# EAGLE library part 74CB3T3245 (library 74CB)
8-BIT FET BUS SWITCH 2.5-V/3.3-V LOW-VOLTAGE WITH 5-V-TOLERANT LEVEL SHIFTER Source: http://www.ti.com/lit/ds/symlink/sn74cb3t3245.pdf
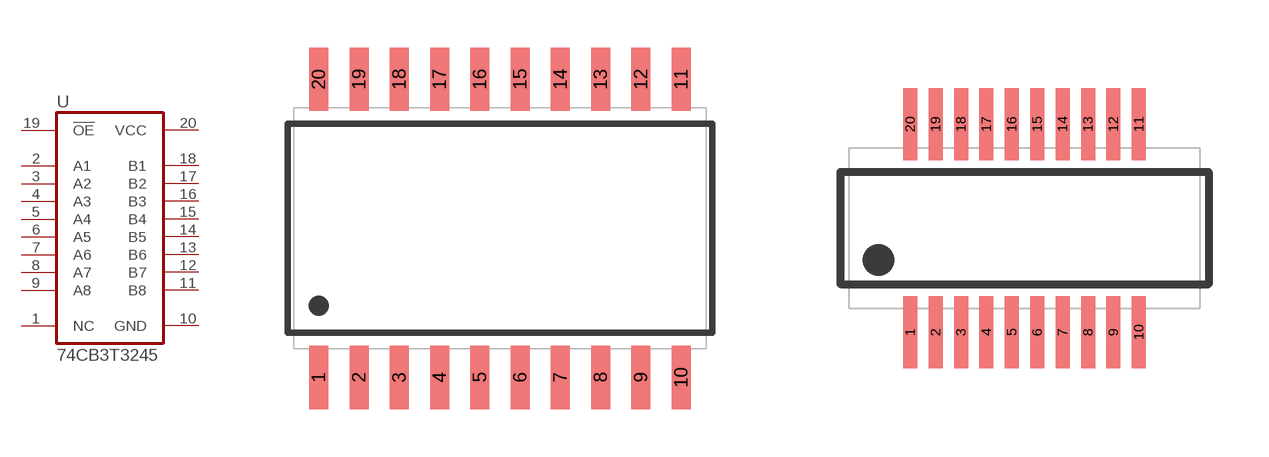
[diagram p0: symbol with the pads of SO20; footprints SO20, SSOP20L]

Designator prefix U

## 74CB3T3245DW  [SO20]
1  NC  nc
2  A1
3  A2
4  A3
5  A4
6  A5
7  A6
8  A7
9  A8
10  GND  pwr
11  B8
12  B7
13  B6
14  B5
15  B4
16  B3
17  B2
18  B1
19  !OE!  in
20  VCC  pwr

## 74CB3T3245DBQ  [SSOP20L]
Pads as for SO20

## 74CB3T3245PW  [TSSOP20]
Pads as for SO20

## 74CB3T3245DGV  [TVSOP20]
Pads as for SO20

## Footprint SO20 (pad centres in mm)
SMALL OUTLINE INTEGRATED CIRCUIT DW ( R-PDSO-G20) / JEDEC MS-013AC pitch 1.27 mm, body 7.6 x 13 mm
smd 0.6 x 2: 1 -5.715,-4.7; 2 -4.445,-4.7; 3 -3.175,-4.7; 4 -1.905,-4.7; 5 -0.635,-4.7; 6 0.635,-4.7; 7 1.905,-4.7; 8 3.175,-4.7; 9 4.445,-4.7; 10 5.715,-4.7; 11 5.715,4.7; 12 4.445,4.7; 13 3.175,4.7; 14 1.905,4.7; 15 0.635,4.7; 16 -0.635,4.7; 17 -1.905,4.7; 18 -3.175,4.7; 19 -4.445,4.7; 20 -5.715,4.7

## Footprint SSOP20L (pad centres in mm)
Small Shrink Outline Package DBQ (R-PDSO-G20) pitch 0.635 mm, body 4.0 x 8.75 mm
smd 0.35 x 1.8: 1 -2.857,-2.6; 2 -2.222,-2.6; 3 -1.587,-2.6; 4 -0.952,-2.6; 5 -0.317,-2.6; 6 0.318,-2.6; 7 0.953,-2.6; 8 1.588,-2.6; 9 2.223,-2.6; 10 2.858,-2.6; 11 2.858,2.6; 12 2.223,2.6; 13 1.588,2.6; 14 0.953,2.6; 15 0.318,2.6; 16 -0.317,2.6; 17 -0.952,2.6; 18 -1.587,2.6; 19 -2.222,2.6; 20 -2.857,2.6

## Footprint TSSOP20 (pad centres in mm)
Thin Shrink Small Outline Plastic 20 PW (R-PDSO-G20) pitch 0.65 mm, body 4.5 x 6.6 mm
smd 0.3 x 1.6: 1 -2.925,-2.8; 2 -2.275,-2.8; 3 -1.625,-2.8; 4 -0.975,-2.8; 5 -0.325,-2.8; 6 0.325,-2.8; 7 0.975,-2.8; 8 1.625,-2.8; 9 2.275,-2.8; 10 2.925,-2.8; 11 2.925,2.8; 12 2.275,2.8; 13 1.625,2.8; 14 0.975,2.8; 15 0.325,2.8; 16 -0.325,2.8; 17 -0.975,2.8; 18 -1.625,2.8; 19 -2.275,2.8; 20 -2.925,2.8

## Footprint TVSOP20 (pad centres in mm)
PLASTIC SMALL-OUTLINE DGV (R-PDSO-G**), JDEC– MO-194 pitch 0.4 mm, body 4.5 x 5.10 mm
smd 0.25 x 1: 1 -2.2,-2.95; 2 -1.8,-2.95; 3 -1.4,-2.95; 4 -1,-2.95; 5 -0.6,-2.95; 6 -0.2,-2.95; 7 0.2,-2.95; 8 0.6,-2.95; 9 1,-2.95; 10 1.4,-2.95; 11 1.8,-2.95; 12 2.2,-2.95; 13 2.2,2.95; 14 1.8,2.95; 15 1.4,2.95; 16 1,2.95; 17 0.6,2.95; 18 0.2,2.95; 19 -0.2,2.95; 20 -0.6,2.95; 21 -1,2.95; 22 -1.4,2.95; 23 -1.8,2.95; 24 -2.2,2.95